# Altium footprint library PowerMeter.PcbLib: 55 footprints (part 4 of 4)
Each footprint in its own frame and in the unit in brackets; x right, y up, seen from the top. Pads: shape width x height; smd on the part's side, far side on the other; paste and mask are expansions set on the pad; w line width, h text height; cw(c..) or ccw(c..) is an arc to the next point about the centre after c.
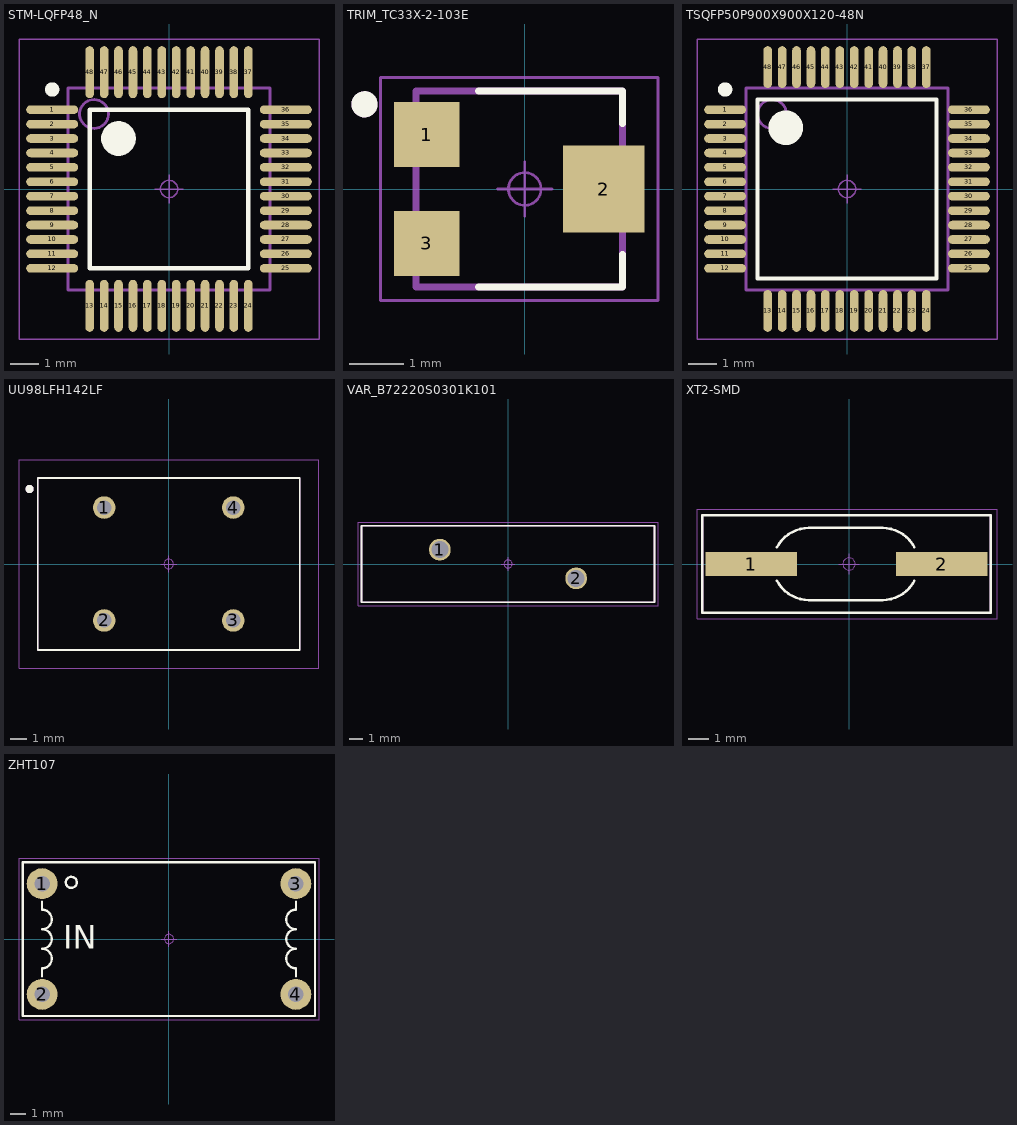
[diagram p3: the footprints below, top view; thin cyan lines are the x and y axes]

## STM-LQFP48_N [mm] "QFP, 48-Leads, Body 7x7mm, Pitch 0.5mm, IPC Medium Density"
height 1.6
pads (48):
  oval 1.8x0.3 smd: 1(-4.05,2.75) 2(-4.05,2.25) 3(-4.05,1.75) 4(-4.05,1.25) 5(-4.05,0.75) 6(-4.05,0.25) 7(-4.05,-0.25) 8(-4.05,-0.75) 9(-4.05,-1.25) 10(-4.05,-1.75) 11(-4.05,-2.25) 12(-4.05,-2.75) 25(4.05,-2.75) 26(4.05,-2.25) 27(4.05,-1.75) 28(4.05,-1.25) 29(4.05,-0.75) 30(4.05,-0.25) 31(4.05,0.25) 32(4.05,0.75) 33(4.05,1.25) 34(4.05,1.75) 35(4.05,2.25) 36(4.05,2.75)
  oval 0.3x1.8 smd: 13(-2.75,-4.05) 14(-2.25,-4.05) 15(-1.75,-4.05) 16(-1.25,-4.05) 17(-0.75,-4.05) 18(-0.25,-4.05) 19(0.25,-4.05) 20(0.75,-4.05) 21(1.25,-4.05) 22(1.75,-4.05) 23(2.25,-4.05) 24(2.75,-4.05) 37(2.75,4.05) 38(2.25,4.05) 39(1.75,4.05) 40(1.25,4.05) 41(0.75,4.05) 42(0.25,4.05) 43(-0.25,4.05) 44(-0.75,4.05) 45(-1.25,4.05) 46(-1.75,4.05) 47(-2.25,4.05) 48(-2.75,4.05)
Top Overlay:
  circle w0.6: c-1.75,1.75 r0.3
  circle w0.25: c-4.05,3.45 r0.125
  lines w0.15: -2.75,-2.75 2.75,-2.75 2.75,2.75 -2.75,2.75 -2.75,-2.75
Top Assembly:
  circle w0.1: c-2.6,2.6 r0.5
  lines w0.1: -3.5,-3.5 -3.5,3.5 3.5,3.5 3.5,-3.5 -3.5,-3.5
  text "'.Designator'" at -3.9,-1.3 h1.52
Top Courtyard:
  lines w0.05: -5.2,-5.2 5.2,-5.2 5.2,5.2 -5.2,5.2 -5.2,-5.2
Top Component Center:
  circle w0.05: c0,0 r0.3
  lines w0.05: -0.5,0 0.5,0 ; 0,-0.5 0,0.5
3D body "STM32F030C8T6.STEP": height 1.6, standoff 0, extent -4.5,-4.5 4.5,4.5

## TRIM_TC33X-2-103E [mm]
pads (3):
  rect 1.2x1.2 smd: 1(-1.8,1) 3(-1.8,-1)
  rect 1.5x1.6 smd: 2(1.45,0)
Top Overlay:
  circle w0.24: c-2.946,1.558 r0.12
  lines w0.127: -0.85,-1.8 1.8,-1.8 1.8,-1.2 ; -0.85,1.8 1.8,1.8 1.8,1.2
Top Assembly:
  lines w0.127: -2,-1.8 -2,1.8 1.8,1.8 1.8,-1.8 -2,-1.8
  text "'.Designator'" at -3.9,-1.3 h1.52
Top Courtyard:
  lines w0.05: -2.65,-2.05 -2.65,2.05 2.45,2.05 2.45,-2.05 -2.65,-2.05
Top Component Center:
  circle w0.05: c0,0 r0.3
  lines w0.05: -0.5,0 0.5,0 ; 0,-0.5 0,0.5
Mechanical 13:
  circle w0.24: c-2.946,1.558 r0.12
3D body "step_temp.STEP": height 1.1, standoff -0.1, extent -1.5,-1.9 1.5,1.9

## TSQFP50P900X900X120-48N [mm] "TSQFP, 48-Leads, Body 7.00x7.00mm, Pitch 0.50mm, IPC Medium Density"
height 1.2
pads (48):
  oval 1.45x0.3 smd: 1(-4.225,2.75) 2(-4.225,2.25) 3(-4.225,1.75) 4(-4.225,1.25) 5(-4.225,0.75) 6(-4.225,0.25) 7(-4.225,-0.25) 8(-4.225,-0.75) 9(-4.225,-1.25) 10(-4.225,-1.75) 11(-4.225,-2.25) 12(-4.225,-2.75) 25(4.225,-2.75) 26(4.225,-2.25) 27(4.225,-1.75) 28(4.225,-1.25) 29(4.225,-0.75) 30(4.225,-0.25) 31(4.225,0.25) 32(4.225,0.75) 33(4.225,1.25) 34(4.225,1.75) 35(4.225,2.25) 36(4.225,2.75)
  oval 0.3x1.45 smd: 13(-2.75,-4.225) 14(-2.25,-4.225) 15(-1.75,-4.225) 16(-1.25,-4.225) 17(-0.75,-4.225) 18(-0.25,-4.225) 19(0.25,-4.225) 20(0.75,-4.225) 21(1.25,-4.225) 22(1.75,-4.225) 23(2.25,-4.225) 24(2.75,-4.225) 37(2.75,4.225) 38(2.25,4.225) 39(1.75,4.225) 40(1.25,4.225) 41(0.75,4.225) 42(0.25,4.225) 43(-0.25,4.225) 44(-0.75,4.225) 45(-1.25,4.225) 46(-1.75,4.225) 47(-2.25,4.225) 48(-2.75,4.225)
Top Overlay:
  circle w0.25: c-4.225,3.45 r0.125
  circle w0.6: c-2.125,2.125 r0.3
  lines w0.15: -3.1,-3.1 -3.1,3.1 3.1,3.1 3.1,-3.1 -3.1,-3.1
Top Assembly:
  circle w0.1: c-2.6,2.6 r0.5
  lines w0.1: -3.5,-3.5 -3.5,3.5 3.5,3.5 3.5,-3.5 -3.5,-3.5
  text "'.Designator'" at -4.5,-1.4 h1.52
Top Courtyard:
  lines w0.05: -5.2,-5.2 -5.2,5.2 5.2,5.2 5.2,-5.2 -5.2,-5.2
Top Component Center:
  circle w0.05: c0,0 r0.3
  lines w0.05: -0.5,0 0.5,0 ; 0,-0.5 0,0.5
3D body "TSQFP50P900X900X120-48N.step": height 1.2, standoff 0, extent -4.5,-4.5 4.5,4.5

## UU98LFH142LF [mm]
pads (4):
  round 1.4 hole 0.9: 1(-4,3.5) 2(-4,-3.5) 3(4,-3.5) 4(4,3.5)
Top Overlay:
  circle w0.25: c-8.625,4.65 r0.125
  lines w0.1: -8.128,-5.334 -8.128,5.334 8.128,5.334 8.128,-5.334 -8.128,-5.334
Top Assembly:
  circle w0.25: c-8.625,4.65 r0.125
  lines w0.1: -8.128,-5.334 -8.128,5.334 8.128,5.334 8.128,-5.334 -8.128,-5.334
  text "'.Designator'" at -5.9,-1.3 h1.52
Top Courtyard:
  lines w0.05: -9.283,-6.477 -9.283,6.477 9.317,6.477 9.317,-6.477 -9.283,-6.477
Top Component Center:
  circle w0.05: c0,0 r0.3
  lines w0.05: -0.5,0 0.5,0 ; 0,-0.5 0,0.5
3D body "User Library-UF9_8.step": height 15.3, standoff -3, extent -8.081,-5.3 8.076,5.3

## VAR_B72220S0301K101 [mm]
height 2000
pads (2):
  round 1.6 hole 1.25: 1(-5,1.05) 2(5,-1.05)
Top Overlay:
  lines w0.127: -10.75,-2.8 10.75,-2.8 10.75,2.8 -10.75,2.8 -10.75,-2.8
Top Assembly:
  lines w0.127: -10.75,-2.8 -10.75,2.8 10.75,2.8 10.75,-2.8 -10.75,-2.8
  text "'.Designator'" at -8,-1 h1.52
Top Courtyard:
  lines w0.05: -11,-3.05 11,-3.05 11,3.05 -11,3.05 -11,-3.05
Top Component Center:
  circle w0.05: c0,0 r0.3
  lines w0.05: -0.5,0 0.5,0 ; 0,-0.5 0,0.5
3D body "step_temp.STEP": height 25.5, standoff -25, extent -10.748,-2.7 10.748,2.7

## XT2-SMD [mm]
pads (2):
  rect 4.5x1.2 smd: 1(-4.826,0) 2(4.572,0)
Top Overlay:
  lines w0.12: -7.239,-2.413 6.985,-2.413 ; -7.239,-2.413 -7.239,2.413 ; -7.239,-2.413 -7.239,2.413 ; -7.239,-2.413 6.985,-2.413 ; -7.239,2.413 6.985,2.413 ; -7.239,2.413 6.985,2.413 ; 6.985,-2.413 6.985,2.413 ; 6.985,-2.413 6.985,2.413
  lines w0.127: -3.556,-0.825 ccw(c-1.981,0) -1.981,-1.778 ; -3.556,0.825 cw(c-1.981,0) -1.981,1.778 ; -1.956,1.778 1.651,1.778 cw(c1.651,0) 3.226,0.825 ; -1.93,-1.787 1.626,-1.787 ; 1.651,-1.778 ccw(c1.651,0) 3.226,-0.825
Top Assembly:
  lines w0.1: -7.239,-2.413 6.985,-2.413 ; -7.239,-2.413 6.985,-2.413 ; -7.239,-2.413 -7.239,2.413 ; -7.239,-2.413 -7.239,2.413 ; -7.239,2.413 6.985,2.413 ; -7.239,2.413 6.985,2.413 ; 6.985,-2.413 6.985,2.413 ; 6.985,-2.413 6.985,2.413
  text "'.Designator'" at -7.4,-1.2 h1.52
Top Courtyard:
  lines w0.05: -7.5,-2.7 -7.5,2.7 7.3,2.7 7.3,-2.7 -7.5,-2.7
Top Component Center:
  circle w0.05: c0,0 r0.3
  lines w0.05: -0.5,0 0.5,0 ; 0,-0.5 0,0.5
3D body: height 0.25, standoff 0, extent 2.832,-0.419 4.153,0.394
3D body: height 0.25, standoff 0, extent -4.534,-0.419 -3.213,0.394
3D body: height 4.3, standoff 0, extent -6.527,-2.415 6.273,2.415

## ZHT107 [mm]
pads (4):
  round 2 hole 1: 1(-8.25,3.6) 2(-8.25,-3.6) 3(8.25,3.6) 4(8.25,-3.6)
Top Overlay:
  circle w0.15: c-6.35,3.683 r0.359
  lines w0.15: -8.255,-2.413 -8.255,-1.905 ccw(c-8.255,-1.27) -8.255,-0.635 ccw(c-8.255,0) -8.255,0.635 ccw(c-8.255,1.27) -8.255,1.905 -8.255,2.413 ; 8.255,-2.413 8.255,-1.905 cw(c8.255,-1.27) 8.255,-0.635 cw(c8.255,0) 8.255,0.635 cw(c8.255,1.27) 8.255,1.905 8.255,2.413 ; -9.51,-5.01 9.49,-5.01 9.49,4.99 -9.51,4.99 -9.51,-5.01
  text "IN" at -6.858,-0.635 h1.52
Top Assembly:
  text "'.Designator'" at -8,-1 h1.52
Top Courtyard:
  lines w0.05: -9.75,-5.25 9.75,-5.25 9.75,5.25 -9.75,5.25 -9.75,-5.25
Top Component Center:
  circle w0.05: c0,0 r0.3
  lines w0.05: -0.5,0 0.5,0 ; 0,-0.5 0,0.5
3D body "ZHT107.step": height 18.5, standoff -3.8, extent -9.5,-5 9.5,5